# Altium schematic symbol library TXB0108RGYR.SchLib: 1 symbol
Pins are listed as number, name and electrical type; pins without a type are passive.

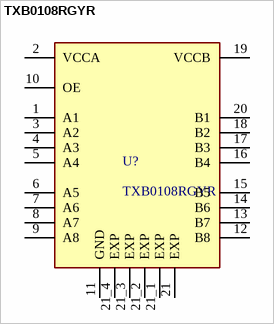
[diagram p0: symbol TXB0108RGYR]

## TXB0108RGYR
designator U?
8-Bit Bidirectional Voltage-Level Shifter with Auto Direction Sensing and +/-15-kV ESD Protect; MF: Texas Instruments; SnapEDA_Link: https://www.snapeda.com/parts/TXB0108RGYR/Texas+Instruments/view-part/?ref=snap; Package: VQFN-20 Texas Instruments; Value: *; MP: TXB0108RGYR; Check_prices: https://www.snapeda.com/parts/TXB0108RGYR/Texas+Instruments/view-part/?ref=eda
footprint IC_TXB0108RGYR
pins: 1 A1, 2 VCCA, 3 A2, 4 A3, 5 A4, 6 A5, 7 A6, 8 A7, 9 A8, 10 OE, 11 GND, 12 B8, 13 B7, 14 B6, 15 B5, 16 B4, 17 B3, 18 B2, 19 VCCB, 20 B1, 21 EXP, 21_1 EXP, 21_2 EXP, 21_3 EXP, 21_4 EXP